# Altium schematic symbol library TPS63024YFFR.SchLib: 1 symbol
Pins are listed as number, name and electrical type; pins without a type are passive.

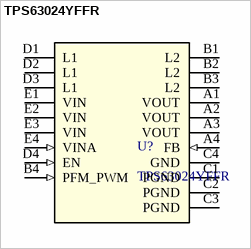
[diagram p0: symbol TPS63024YFFR]

## TPS63024YFFR
designator U?
No Description Available; Alternate_PartNumber: TPS63024YFFT; Manufacturer: Texas Instruments; CompType: IC; PIN_COUNT: 20; PartNumber: TPS63024YFFR; PackageReference: YFF0020AJAF; MountType: SMT; RoHS: Y; RefDes: RefDes; Type: DEV; Value: Value; Copyright: Copyright (C) 2018 Accelerated Designs. All rights reserved
footprint YFF0020AJAF
pins: A1 VOUT (power), A2 VOUT (power), A3 VOUT (power), A4 FB (in), B1 L2, B2 L2, B3 L2, B4 PFM_PWM (in), C1 PGND (power), C2 PGND (power), C3 PGND (power), C4 GND (power), D1 L1, D2 L1, D3 L1, D4 EN (in), E1 VIN (power), E2 VIN (power), E3 VIN (power), E4 VINA (in)